# EAGLE library part TYO122A (library rfops)
TYO122A Crystal filter from Taisaw
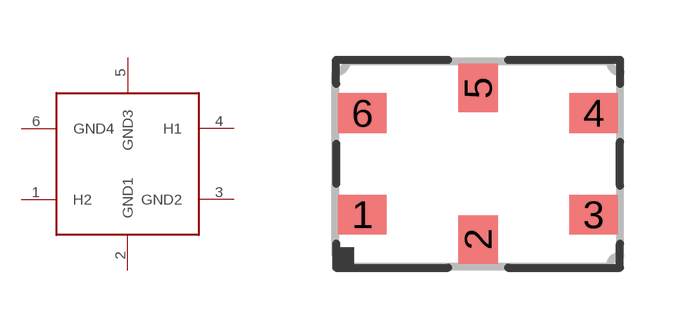
[diagram p23: symbol with the pads of TY0122A; footprint TY0122A]

Designator prefix QF

## TYO122A  [TY0122A]
1  H2  pas
2  GND1  pwr
3  GND2  pwr
4  H1  pas
5  GND3  pwr
6  GND4  pwr

## Footprint TY0122A (pad centres in mm)
TYO122A Crystal Filter from TAISAW
smd 1.21 x 0.99: 1 -2.895,-1.27; 3 2.895,-1.27; 4 2.895,1.27; 6 -2.895,1.27
smd 0.99 x 1.21: 2 0,-1.895; 5 0,1.895